# EAGLE library part DSPIC30F6010-20I/PF (library Microchip_By_element14_Batch_1)
16-bit Digital Signal Controllers ;
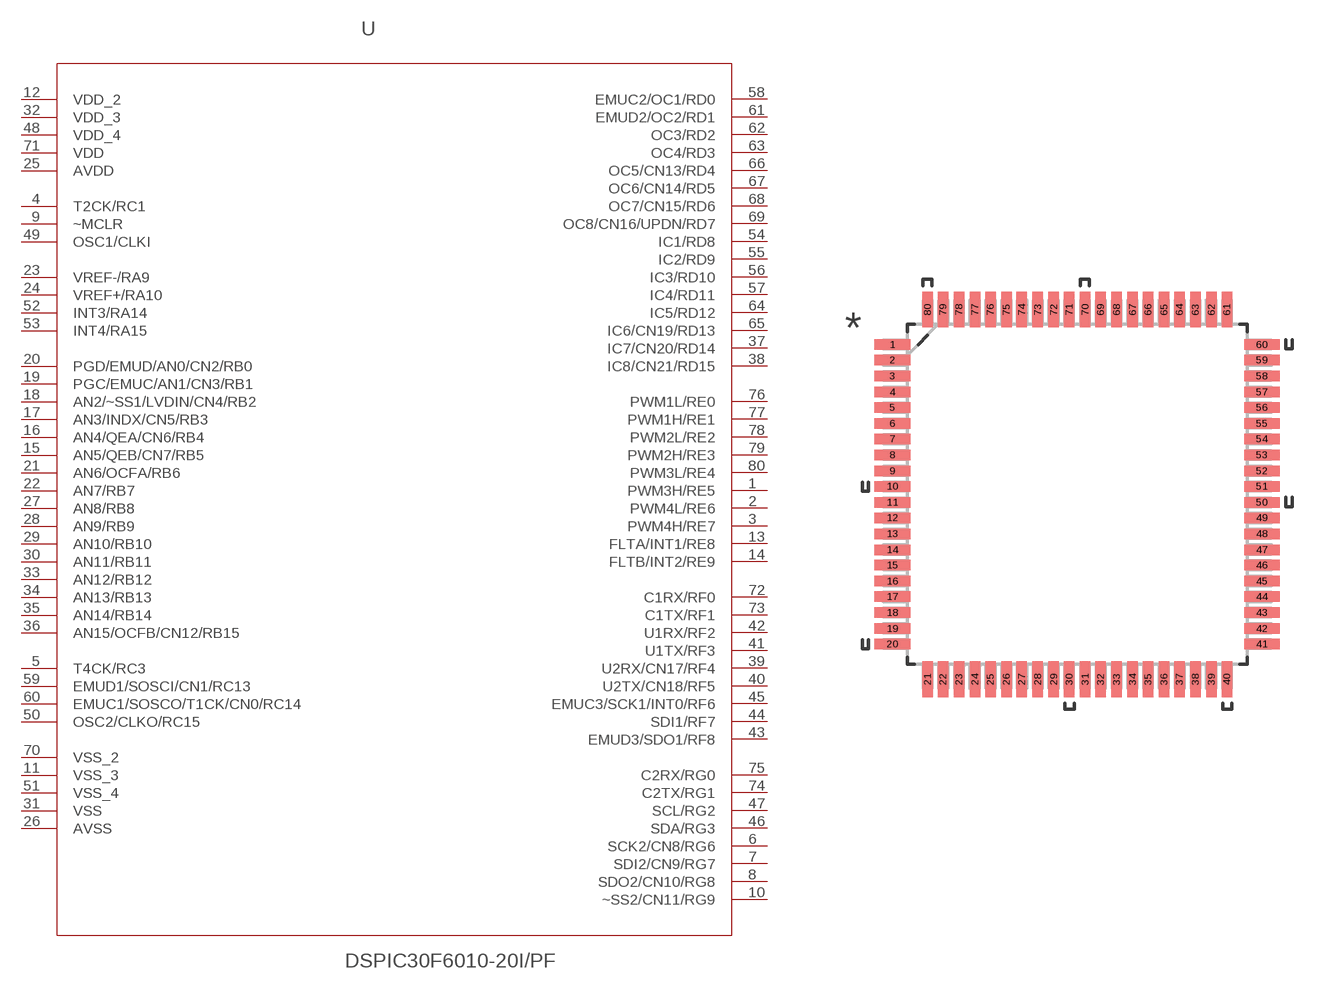
[diagram p311: symbol with the pads of QFP65P1600X1600X120-80N; footprint QFP65P1600X1600X120-80N]

Designator prefix -

## DSPIC30F6010-20I/PF (MPN: DSPIC30F6010-20I/PF; OC_FARNELL: 1084350; OC_NEWARK: 65K1029; PACKAGE: TQFP-80; SUPPLIER: Microchip)  [QFP65P1600X1600X120-80N]
1  PWM3H/RE5
2  PWM4L/RE6
3  PWM4H/RE7
4  T2CK/RC1
5  T4CK/RC3
6  SCK2/CN8/RG6
7  SDI2/CN9/RG7
8  SDO2/CN10/RG8
9  ~MCLR  in
10  ~SS2/CN11/RG9
11  VSS_3  pwr
12  VDD_2  pwr
13  FLTA/INT1/RE8
14  FLTB/INT2/RE9
15  AN5/QEB/CN7/RB5
16  AN4/QEA/CN6/RB4
17  AN3/INDX/CN5/RB3
18  AN2/~SS1/LVDIN/CN4/RB2
19  PGC/EMUC/AN1/CN3/RB1
20  PGD/EMUD/AN0/CN2/RB0
21  AN6/OCFA/RB6
22  AN7/RB7
23  VREF-/RA9
24  VREF+/RA10
25  AVDD  pwr
26  AVSS  pwr
27  AN8/RB8
28  AN9/RB9
29  AN10/RB10
30  AN11/RB11
31  VSS  pwr
32  VDD_3  pwr
33  AN12/RB12
34  AN13/RB13
35  AN14/RB14
36  AN15/OCFB/CN12/RB15
37  IC7/CN20/RD14
38  IC8/CN21/RD15
39  U2RX/CN17/RF4
40  U2TX/CN18/RF5
41  U1TX/RF3
42  U1RX/RF2
43  EMUD3/SDO1/RF8
44  SDI1/RF7
45  EMUC3/SCK1/INT0/RF6
46  SDA/RG3
47  SCL/RG2
48  VDD_4  pwr
49  OSC1/CLKI  in
50  OSC2/CLKO/RC15
51  VSS_4  pwr
52  INT3/RA14
53  INT4/RA15
54  IC1/RD8
55  IC2/RD9
56  IC3/RD10
57  IC4/RD11
58  EMUC2/OC1/RD0
59  EMUD1/SOSCI/CN1/RC13
60  EMUC1/SOSCO/T1CK/CN0/RC14
61  EMUD2/OC2/RD1
62  OC3/RD2
63  OC4/RD3
64  IC5/RD12
65  IC6/CN19/RD13
66  OC5/CN13/RD4
67  OC6/CN14/RD5
68  OC7/CN15/RD6
69  OC8/CN16/UPDN/RD7
70  VSS_2  pwr
71  VDD  pwr
72  C1RX/RF0
73  C1TX/RF1
74  C2TX/RG1
75  C2RX/RG0
76  PWM1L/RE0
77  PWM1H/RE1
78  PWM2L/RE2
79  PWM2H/RE3
80  PWM3L/RE4

## Footprint QFP65P1600X1600X120-80N (pad centres in mm)
smd 1.473 x 0.432: 1 -7.62,6.172; 2 -7.62,5.537; 3 -7.62,4.877; 4 -7.62,4.216; 5 -7.62,3.581; 6 -7.62,2.921; 7 -7.62,2.286; 8 -7.62,1.626; 9 -7.62,0.965; 10 -7.62,0.33; 11 -7.62,-0.33; 12 -7.62,-0.965; 13 -7.62,-1.626; 14 -7.62,-2.286; 15 -7.62,-2.921; 16 -7.62,-3.581; 17 -7.62,-4.216; 18 -7.62,-4.877; 19 -7.62,-5.537; 20 -7.62,-6.172; 41 7.62,-6.172; 42 7.62,-5.537; 43 7.62,-4.877; 44 7.62,-4.216; 45 7.62,-3.581; 46 7.62,-2.921; 47 7.62,-2.286; 48 7.62,-1.626; 49 7.62,-0.965; 50 7.62,-0.33; 51 7.62,0.33; 52 7.62,0.965; 53 7.62,1.626; 54 7.62,2.286; 55 7.62,2.921; 56 7.62,3.581; 57 7.62,4.216; 58 7.62,4.877; 59 7.62,5.537; 60 7.62,6.172
smd 0.432 x 1.473: 21 -6.172,-7.62; 22 -5.537,-7.62; 23 -4.877,-7.62; 24 -4.216,-7.62; 25 -3.581,-7.62; 26 -2.921,-7.62; 27 -2.286,-7.62; 28 -1.626,-7.62; 29 -0.965,-7.62; 30 -0.33,-7.62; 31 0.33,-7.62; 32 0.965,-7.62; 33 1.626,-7.62; 34 2.286,-7.62; 35 2.921,-7.62; 36 3.581,-7.62; 37 4.216,-7.62; 38 4.877,-7.62; 39 5.537,-7.62; 40 6.172,-7.62; 61 6.172,7.62; 62 5.537,7.62; 63 4.877,7.62; 64 4.216,7.62; 65 3.581,7.62; 66 2.921,7.62; 67 2.286,7.62; 68 1.626,7.62; 69 0.965,7.62; 70 0.33,7.62; 71 -0.33,7.62; 72 -0.965,7.62; 73 -1.626,7.62; 74 -2.286,7.62; 75 -2.921,7.62; 76 -3.581,7.62; 77 -4.216,7.62; 78 -4.877,7.62; 79 -5.537,7.62; 80 -6.172,7.62